# EAGLE library part RASPI-GPIO (library RASPI-GPIO)
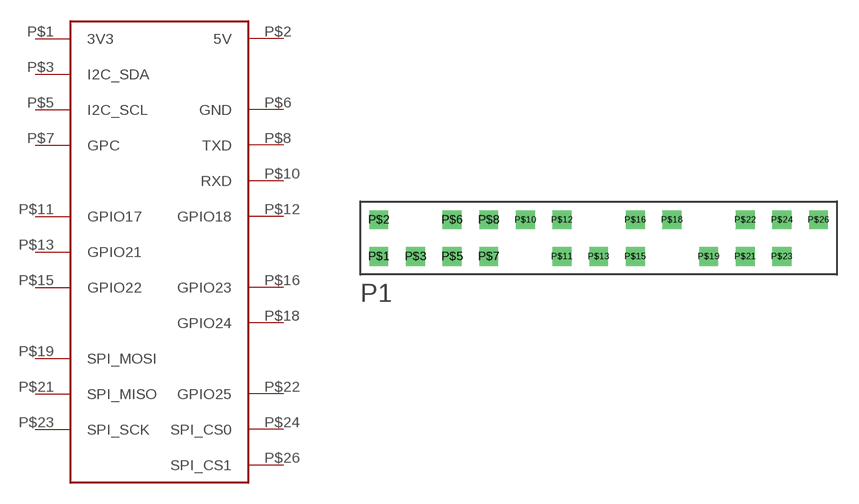
[diagram p0: symbol with the pads of RASPI-GPIO; footprint RASPI-GPIO]

Designator prefix -

## RASPI-GPIO  [RASPI-GPIO]
P$1  3V3
P$2  5V
P$3  I2C_SDA
P$5  I2C_SCL
P$6  GND
P$7  GPC
P$8  TXD
P$10  RXD
P$11  GPIO17
P$12  GPIO18
P$13  GPIO21
P$15  GPIO22
P$16  GPIO23
P$18  GPIO24
P$19  SPI_MOSI
P$21  SPI_MISO
P$22  GPIO25
P$23  SPI_SCK
P$24  SPI_CS0
P$26  SPI_CS1

## Footprint RASPI-GPIO (pad centres in mm)
drill 0.8 square: P$1 -11.43,-1.27; P$2 -11.43,1.27; P$3 -8.89,-1.27; P$5 -6.35,-1.27; P$6 -6.35,1.27; P$7 -3.81,-1.27; P$8 -3.81,1.27; P$10 -1.27,1.27; P$11 1.27,-1.27; P$12 1.27,1.27; P$13 3.81,-1.27; P$15 6.35,-1.27; P$16 6.35,1.27; P$18 8.89,1.27; P$19 11.43,-1.27; P$21 13.97,-1.27; P$22 13.97,1.27; P$23 16.51,-1.27; P$24 16.51,1.27; P$26 19.05,1.27